# Altium schematic symbol library ADT1-6T.Schlib: 1 symbol
Pins are listed as number, name and electrical type; pins without a type are passive.

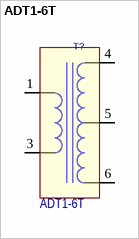
[diagram p0: symbol ADT1-6T]

## ADT1-6T
designator T?
RF Transformer 50Ω 0.03 to 125MHz; Потребление, Вт: 0,01; Назначение: RF Transformer 50Ω 0.03 to 125MHz; Наименование: ADT1-6T
pins: 1, 3, 4, 5, 6